# EAGLE library part SD-503182-003 (library MolexSD)
Molex micro SD card connector normal mount
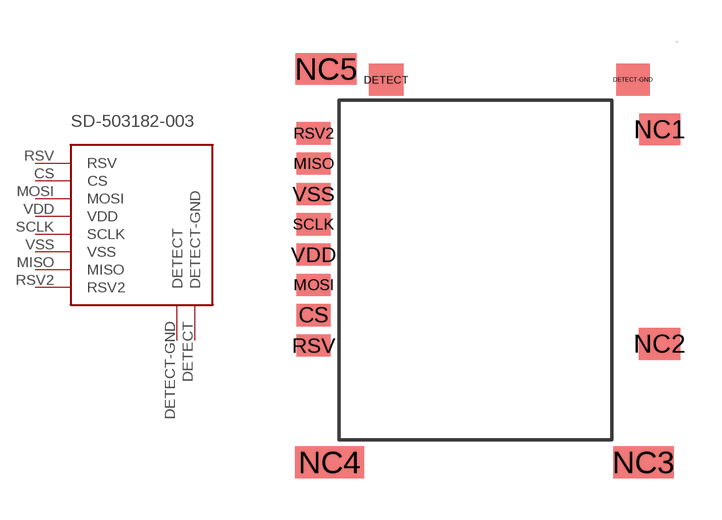
[diagram p0: symbol with the pads of SD-503182-003; footprint SD-503182-003]

Designator prefix -

## SD-503182-003  [SD-503182-003]
CS  CS  in
DETECT  DETECT-GND
DETECT-GND  DETECT
MISO  MISO  out
MOSI  MOSI  in
RSV  RSV  nc
RSV2  RSV2  nc
SCLK  SCLK  in
VDD  VDD  pwr
VSS  VSS  pwr

## Footprint SD-503182-003 (pad centres in mm)
smd 1.24 x 0.8: CS -13.11,5.97; MISO -13.11,11.47; MOSI -13.11,7.07; RSV -13.11,4.87; RSV2 -13.11,12.57; SCLK -13.11,9.27; VDD -13.11,8.17; VSS -13.11,10.37
smd 1.25 x 1.16: DETECT -10.48,14.51
smd 1.2 x 1.16: DETECT-GND -1.52,14.51
smd 1.5 x 1.15: NC1 -0.55,12.71; NC2 -0.56,4.93
smd 2.2 x 1.15: NC3 -1.14,0.63; NC5 -12.66,14.91
smd 2.5 x 1.15: NC4 -12.53,0.63